# EAGLE library part FPC-0.5-32 (library Hoektronics)
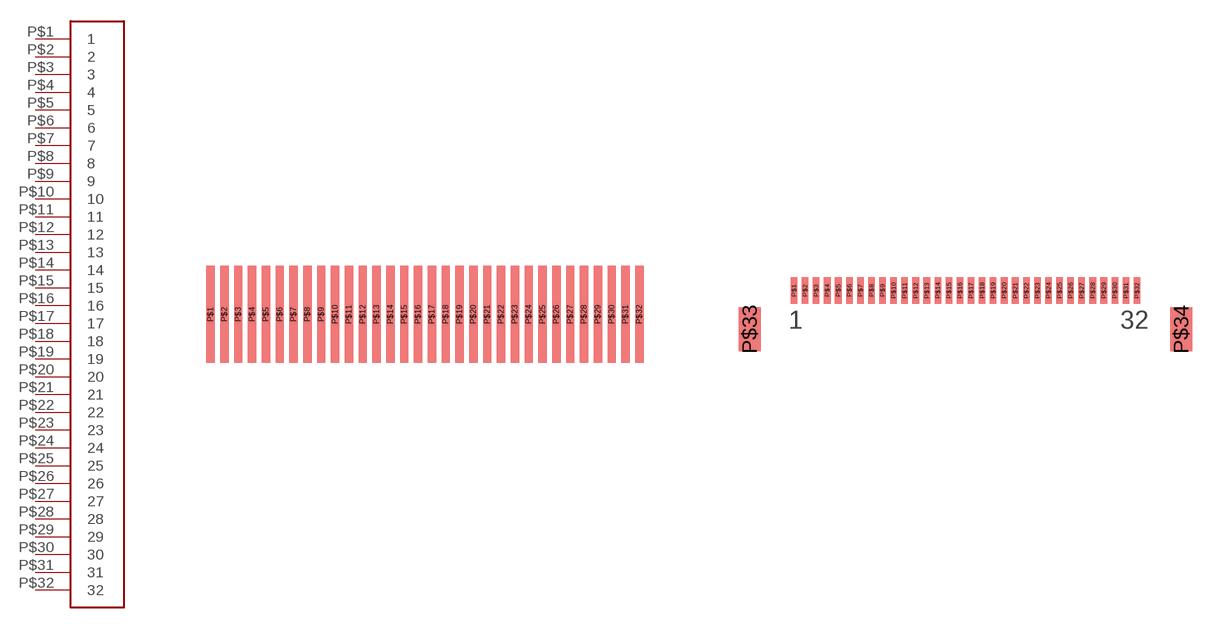
[diagram p21: symbol with the pads of FPC-32-WIRE; footprints FPC-32-WIRE, FPC-32-HORIZONTAL]

Designator prefix -

## FPC-0.5-32  [FPC-32-WIRE]
P$1  1
P$2  2
P$3  3
P$4  4
P$5  5
P$6  6
P$7  7
P$8  8
P$9  9
P$10  10
P$11  11
P$12  12
P$13  13
P$14  14
P$15  15
P$16  16
P$17  17
P$18  18
P$19  19
P$20  20
P$21  21
P$22  22
P$23  23
P$24  24
P$25  25
P$26  26
P$27  27
P$28  28
P$29  29
P$30  30
P$31  31
P$32  32

## FPC-0.5-32HORIZ  [FPC-32-HORIZONTAL]
Pads as for FPC-32-WIRE

## Footprint FPC-32-WIRE (pad centres in mm)
smd 0.3 x 3.5: P$1 -7.75,0; P$2 -7.25,0; P$3 -6.75,0; P$4 -6.25,0; P$5 -5.75,0; P$6 -5.25,0; P$7 -4.75,0; P$8 -4.25,0; P$9 -3.75,0; P$10 -3.25,0; P$11 -2.75,0; P$12 -2.25,0; P$13 -1.75,0; P$14 -1.25,0; P$15 -0.75,0; P$16 -0.25,0; P$17 0.25,0; P$18 0.75,0; P$19 1.25,0; P$20 1.75,0; P$21 2.25,0; P$22 2.75,0; P$23 3.25,0; P$24 3.75,0; P$25 4.25,0; P$26 4.75,0; P$27 5.25,0; P$28 5.75,0; P$29 6.25,0; P$30 6.75,0; P$31 7.25,0; P$32 7.75,0

## Footprint FPC-32-HORIZONTAL (pad centres in mm)
smd 0.3 x 1.2: P$1 -7.75,0.5; P$2 -7.25,0.5; P$3 -6.75,0.5; P$4 -6.25,0.5; P$5 -5.75,0.5; P$6 -5.25,0.5; P$7 -4.75,0.5; P$8 -4.25,0.5; P$9 -3.75,0.5; P$10 -3.25,0.5; P$11 -2.75,0.5; P$12 -2.25,0.5; P$13 -1.75,0.5; P$14 -1.25,0.5; P$15 -0.75,0.5; P$16 -0.25,0.5; P$17 0.25,0.5; P$18 0.75,0.5; P$19 1.25,0.5; P$20 1.75,0.5; P$21 2.25,0.5; P$22 2.75,0.5; P$23 3.25,0.5; P$24 3.75,0.5; P$25 4.25,0.5; P$26 4.75,0.5; P$27 5.25,0.5; P$28 5.75,0.5; P$29 6.25,0.5; P$30 6.75,0.5; P$31 7.25,0.5; P$32 7.75,0.5
smd 1 x 2: P$33 -9.75,-1.25; P$34 9.75,-1.25